# Altium footprint library Diodes_Footprint.PcbLib: 2 footprints
Each footprint in its own frame and in the unit in brackets; x right, y up, seen from the top. Pads: shape width x height; smd on the part's side, far side on the other; paste and mask are expansions set on the pad; w line width, h text height; cw(c..) or ccw(c..) is an arc to the next point about the centre after c.
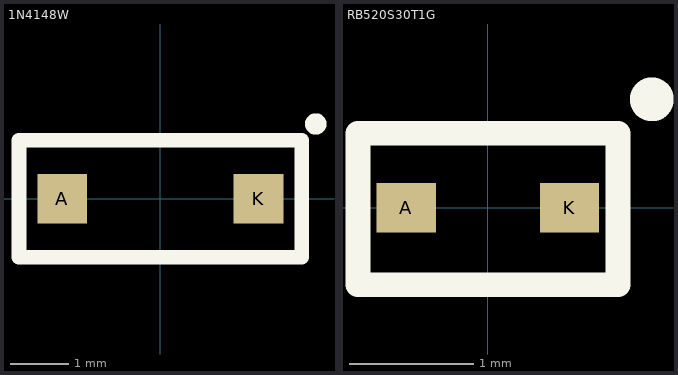
[diagram p0: the footprints below, top view; thin cyan lines are the x and y axes]

## 1N4148W [mm] "Fast Switching SMD Diode"
pads (2):
  rect 0.85x0.85 smd mask+0.05: A(-1.675,0) K(1.675,0)
Top Overlay:
  circle w0.254: c2.65,1.275 r0.056
  lines w0.25: -2.413,-1 2.413,-1 2.413,1 -2.413,1 -2.413,-1
Mechanical 1:
  text ".Designator" at -0.15,0.267 h0.5
3D body "1n4148w-13-f.stp": height 1.06, standoff -0.04, extent -1.825,-0.775 1.825,0.775

## RB520S30T1G [mm]
pads (2):
  rect 0.48x0.4 smd mask+0.02: A(-0.66,0) K(0.66,0)
Top Overlay:
  circle w0.254: c1.325,0.875 r0.05
  lines w0.2: -1.05,-0.625 1.051,-0.625 1.051,0.6 -1.05,0.6 -1.05,-0.625
3D body "SOD-523_0P9X1P3_ONS.step": height 0.46, standoff 0, extent -0.851,-0.444 0.851,0.444